# Altium footprint library LQFP64 (10x10x1.4).PcbLib: 1 footprints
Each footprint in its own frame and in the unit in brackets; x right, y up, seen from the top. Pads: shape width x height; smd on the part's side, far side on the other; paste and mask are expansions set on the pad; w line width, h text height; cw(c..) or ccw(c..) is an arc to the next point about the centre after c.
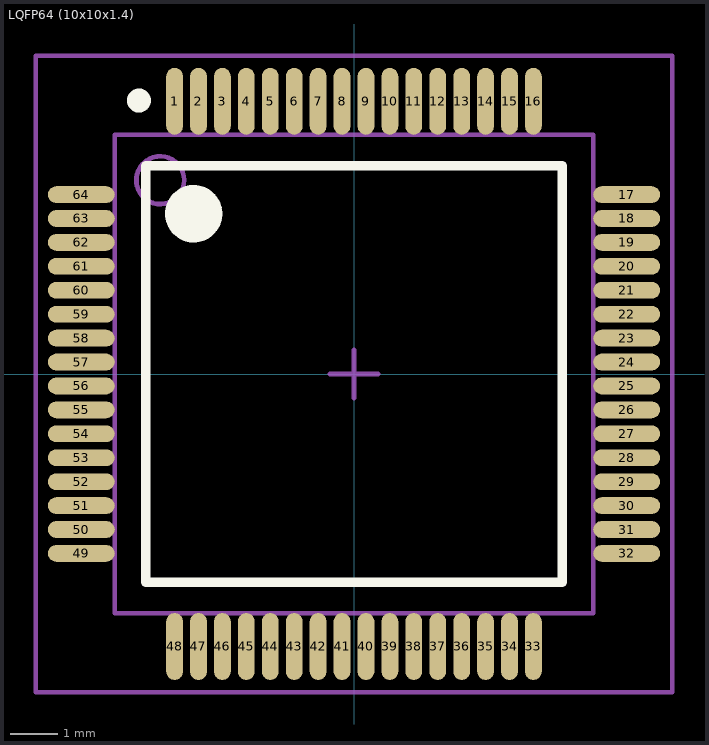
[diagram p0: the footprint, top view; thin cyan lines are the x and y axes]

## LQFP64 (10x10x1.4) [mm] "ST Micro (not Standard Pin count!!)"
height 1.49
pads (64):
  oval 0.35x1.4 smd: 1(-3.75,5.7) 2(-3.25,5.7) 3(-2.75,5.7) 4(-2.25,5.7) 5(-1.75,5.7) 6(-1.25,5.7) 7(-0.75,5.7) 8(-0.25,5.7) 9(0.25,5.7) 10(0.75,5.7) 11(1.25,5.7) 12(1.75,5.7) 13(2.25,5.7) 14(2.75,5.7) 15(3.25,5.7) 16(3.75,5.7) 33(3.75,-5.695) 34(3.25,-5.695) 35(2.75,-5.695) 36(2.25,-5.695) 37(1.75,-5.695) 38(1.25,-5.695) 39(0.75,-5.695) 40(0.25,-5.695) 41(-0.25,-5.695) 42(-0.75,-5.695) 43(-1.25,-5.695) 44(-1.75,-5.695) 45(-2.25,-5.695) 46(-2.75,-5.695) 47(-3.25,-5.695) 48(-3.75,-5.695)
  oval 1.4x0.35 smd: 17(5.7,3.75) 18(5.7,3.25) 19(5.7,2.75) 20(5.7,2.25) 21(5.7,1.75) 22(5.7,1.25) 23(5.7,0.75) 24(5.7,0.25) 25(5.7,-0.25) 26(5.7,-0.75) 27(5.7,-1.25) 28(5.7,-1.75) 29(5.7,-2.25) 30(5.7,-2.75) 31(5.7,-3.25) 32(5.7,-3.75) 49(-5.7,-3.75) 50(-5.7,-3.25) 51(-5.7,-2.75) 52(-5.7,-2.25) 53(-5.7,-1.75) 54(-5.7,-1.25) 55(-5.7,-0.75) 56(-5.7,-0.25) 57(-5.7,0.25) 58(-5.7,0.75) 59(-5.7,1.25) 60(-5.7,1.75) 61(-5.7,2.25) 62(-5.7,2.75) 63(-5.7,3.25) 64(-5.7,3.75)
Top Overlay:
  circle w0.25: c-4.494,5.715 r0.125
  circle w0.6: c-3.35,3.35 r0.3
  lines w0.2: -4.35,-4.35 -4.35,4.35 4.35,4.35 4.35,-4.35 -4.35,-4.35
Mechanical 13:
  circle w0.1: c-4.05,4.05 r0.5
  lines w0.1: -5,-5 -5,5 5,5 5,-5 -5,-5
Mechanical 15:
  lines w0.1: -0.5,0 0.5,0 ; 0,-0.5 0,0.5 ; -6.65,-6.65 -6.65,6.65 6.65,6.65 6.65,-6.65 -6.65,-6.65
3D body "User Library-STM32F107 -LQFP64 10mm x 10mm.STEP": height 1.6, standoff 0.01, extent -5.999,-5.999 5.999,5.999